# Altium footprint library PIC.PcbLib: 10 footprints
Each footprint in its own frame and in the unit in brackets; x right, y up, seen from the top. Pads: shape width x height; smd on the part's side, far side on the other; paste and mask are expansions set on the pad; w line width, h text height; cw(c..) or ccw(c..) is an arc to the next point about the centre after c.
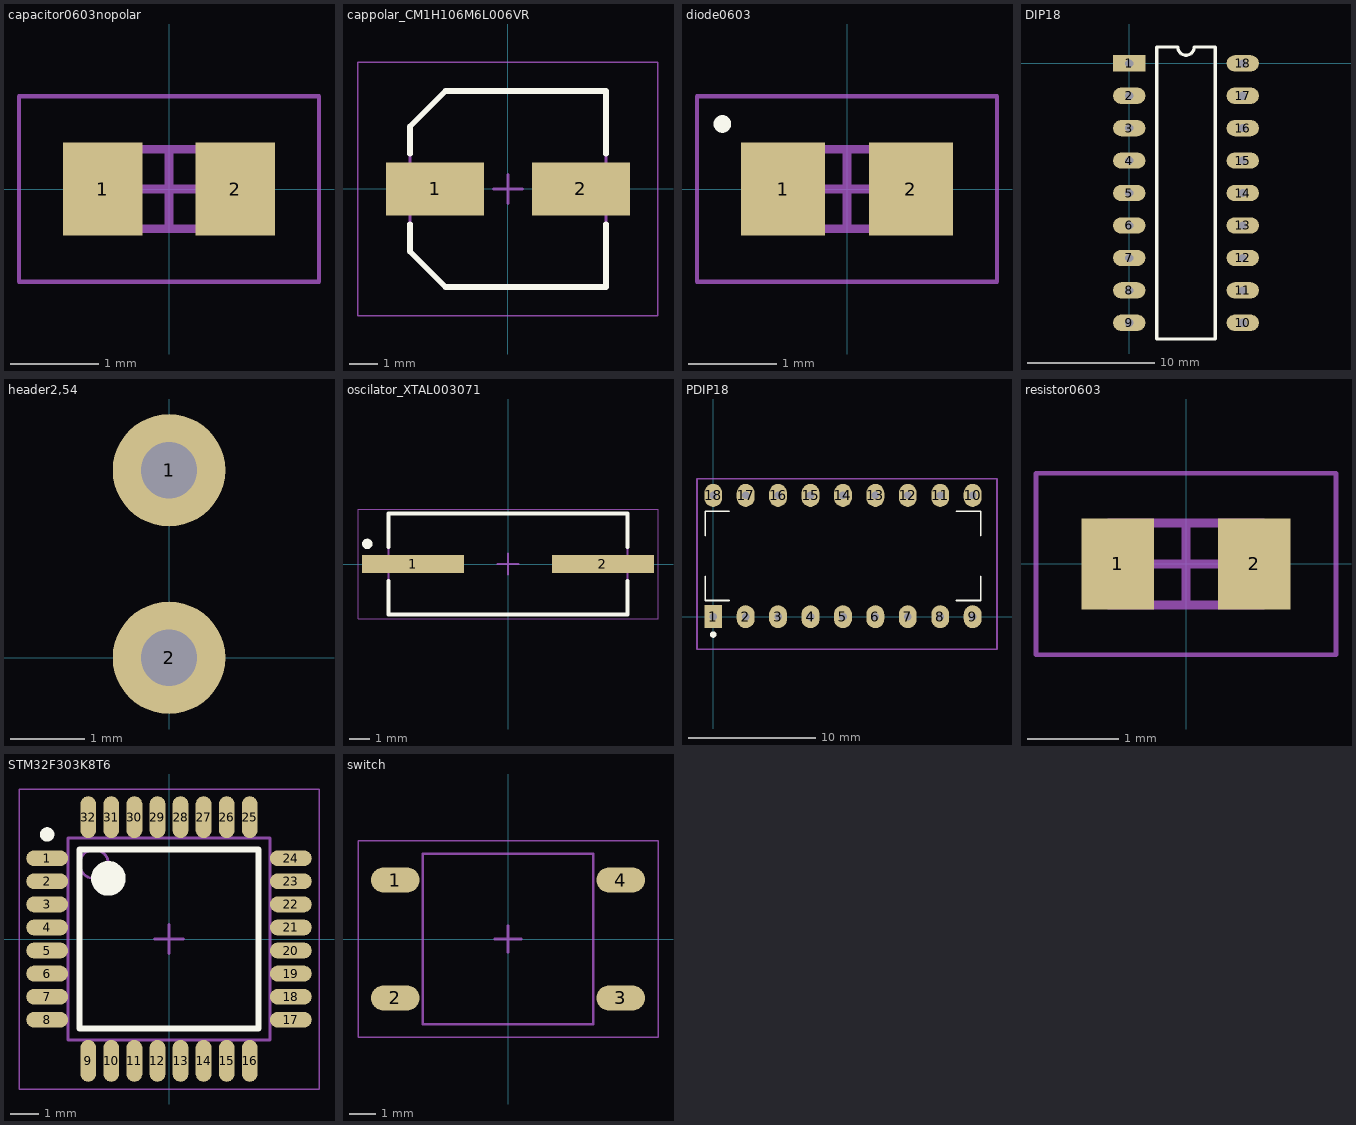
[diagram p0: the footprints below, top view; thin cyan lines are the x and y axes]

## capacitor0603nopolar [mm]
height 0.87
pads (2):
  rect 0.9x1.05 smd: 1(-0.75,0) 2(0.75,0)
Mechanical 13:
  lines w0.1: -0.85,-0.45 -0.85,0.45 0.85,0.45 0.85,-0.45 -0.85,-0.45
Mechanical 15:
  lines w0.05: -1.7,-1.05 -1.7,1.05 1.7,1.05 1.7,-1.05 -1.7,-1.05
  lines w0.1: -0.45,0 0.45,0 ; 0,-0.45 0,0.45
3D body: height 0.87, standoff 0, extent -0.5,-0.45 0.5,0.45
3D body: height 0.87, standoff 0, extent -0.85,-0.45 -0.5,0.45
3D body: height 0.87, standoff 0, extent 0.5,-0.45 0.85,0.45

## cappolar_CM1H106M6L006VR [mm]
height 6.3
pads (2):
  rect 3.4x1.85 smd: 1(-2.525,0) 2(2.525,0)
Top Overlay:
  lines w0.2: -3.4,-1.225 -3.4,-2.163 -2.162,-3.4 3.4,-3.4 3.4,-1.225 ; -3.4,1.225 -3.4,2.163 -2.162,3.4 3.4,3.4 3.4,1.225
Mechanical 13:
  lines w0.1: -3.4,-2.163 -2.162,-3.4 3.4,-3.4 3.4,3.4 -2.162,3.4 -3.4,2.163 -3.4,-2.163
Mechanical 15:
  lines w0.05: -5.2,-4.4 -5.2,4.4 5.2,4.4 5.2,-4.4 -5.2,-4.4
  lines w0.1: -0.5,0 0.5,0 ; 0,-0.5 0,0.5
3D body: height 2.1, standoff 0, extent -3.4,-3.4 3.4,3.4
3D body: height 6.3, standoff 0, extent -3.4,-3.4 3.4,3.4

## diode0603 [mm]
height 1
pads (2):
  rect 0.95x1.05 smd: 1(-0.725,0) 2(0.725,0)
Top Overlay:
  circle w0.1: c-1.412,0.737 r0.05
Mechanical 13:
  lines w0.1: -0.9,-0.45 0.9,-0.45 0.9,0.45 -0.9,0.45 -0.9,-0.45
Mechanical 15:
  lines w0.05: -1.7,-1.05 1.7,-1.05 1.7,1.05 -1.7,1.05 -1.7,-1.05
  lines w0.1: -0.45,0 0.45,0 ; 0,-0.45 0,0.45
3D body: height 1, standoff 0, extent 0.55,-0.45 0.9,0.45
3D body: height 1, standoff 0, extent -0.9,-0.45 -0.55,0.45
3D body: height 1, standoff 0, extent -0.55,-0.45 0.55,0.45

## DIP18 [mm]
pads (18):
  rect 2.54x1.27 hole 0.635: 1(0,0)
  oval 2.54x1.27 hole 0.635: 2(0,-2.54) 3(0,-5.08) 4(0,-7.62) 5(0,-10.16) 6(0,-12.7) 7(0,-15.24) 8(0,-17.78) 9(0,-20.32) 10(8.89,-20.32) 11(8.89,-17.78) 12(8.89,-15.24) 13(8.89,-12.7) 14(8.89,-10.16) 15(8.89,-7.62) 16(8.89,-5.08) 17(8.89,-2.54) 18(8.89,0)
Top Overlay:
  lines w0.254: 2.159,-21.59 6.731,-21.59 6.731,1.27 5.08,1.27 cw(c4.445,1.27) 3.81,1.27 2.159,1.27 2.159,-21.59
3D body: height 4.3, standoff 0, extent 2.159,-21.59 6.731,1.27

## header2,54 [mil]
pads (2):
  round 60 hole 30: 1(0,100) 2(0,0)

## oscilator_XTAL003071 [mm]
height 4.3
pads (2):
  rect 4.95x0.85 smd: 1(-4.6,0) 2(4.6,0)
Top Overlay:
  circle w0.25: c-6.825,0.975 r0.125
  lines w0.2: -5.8,-0.825 -5.8,-2.45 5.8,-2.45 5.8,-0.825 ; -5.8,0.825 -5.8,2.45 5.8,2.45 5.8,0.825
Mechanical 13:
  lines w0.1: -5.8,-2.45 5.8,-2.45 5.8,2.45 -5.8,2.45 -5.8,-2.45
Mechanical 15:
  lines w0.05: -7.275,-2.65 7.275,-2.65 7.275,2.65 -7.275,2.65 -7.275,-2.65
  lines w0.1: -0.5,0 0.5,0 ; 0,-0.5 0,0.5
3D body: height 4.3, standoff 0, extent -5.8,-2.45 5.8,2.45

## PDIP18 [mm]
height 4.32
pads (18):
  rect 1.4x1.8 hole 0.6: 1(0,0)
  oval 1.4x1.8 hole 0.6: 2(2.54,0) 3(5.08,0) 4(7.62,0) 5(10.16,0) 6(12.7,0) 7(15.24,0) 8(17.78,0) 9(20.32,0) 10(20.32,9.5) 11(17.78,9.5) 12(15.24,9.5) 13(12.7,9.5) 14(10.16,9.5) 15(7.62,9.5) 16(5.08,9.5) 17(2.54,9.5) 18(0,9.5)
Top Overlay:
  circle w0.254: c0,-1.397 r0.127
  lines w0.127: -0.635,3.175 -0.635,1.27 1.27,1.27 ; -0.635,6.35 -0.635,8.255 1.27,8.255 ; 19.05,1.27 20.955,1.27 20.955,3.175 ; 19.05,8.255 20.955,8.255 20.955,6.35
Mechanical 15:
  lines w0.127: -1.27,-2.54 -1.27,10.795 22.225,10.795 22.225,-2.54 -1.27,-2.54
3D body: height 4.3, standoff 0, extent -0.635,1.27 20.955,8.255

## resistor0603 [mm]
height 0.6
pads (2):
  rect 0.8x1 smd: 1(-0.75,0) 2(0.75,0)
Mechanical 13:
  lines w0.1: -0.85,-0.45 0.85,-0.45 0.85,0.45 -0.85,0.45 -0.85,-0.45
Mechanical 15:
  lines w0.05: -1.65,-1 1.65,-1 1.65,1 -1.65,1 -1.65,-1
  lines w0.1: -0.45,0 0.45,0 ; 0,-0.45 0,0.45
3D body: height 0.6, standoff 0, extent 0.55,-0.45 0.85,0.45
3D body: height 0.6, standoff 0, extent -0.85,-0.45 -0.55,0.45
3D body: height 0.6, standoff 0, extent -0.55,-0.45 0.55,0.45

## STM32F303K8T6 [mm] "TQFP, 32-Leads, Body 7,00x7,00mm, Pitch 0,80mm, IPC Medium Density"
height 1.6
pads (32):
  oval 1.45x0.55 smd: 1(-4.225,2.8) 2(-4.225,2) 3(-4.225,1.2) 4(-4.225,0.4) 5(-4.225,-0.4) 6(-4.225,-1.2) 7(-4.225,-2) 8(-4.225,-2.8) 17(4.225,-2.8) 18(4.225,-2) 19(4.225,-1.2) 20(4.225,-0.4) 21(4.225,0.4) 22(4.225,1.2) 23(4.225,2) 24(4.225,2.8)
  oval 0.55x1.45 smd: 9(-2.8,-4.225) 10(-2,-4.225) 11(-1.2,-4.225) 12(-0.4,-4.225) 13(0.4,-4.225) 14(1.2,-4.225) 15(2,-4.225) 16(2.8,-4.225) 25(2.8,4.225) 26(2,4.225) 27(1.2,4.225) 28(0.4,4.225) 29(-0.4,4.225) 30(-1.2,4.225) 31(-2,4.225) 32(-2.8,4.225)
Top Overlay:
  circle w0.6: c-2.1,2.1 r0.3
  circle w0.25: c-4.225,3.625 r0.125
  lines w0.2: -3.1,-3.1 3.1,-3.1 3.1,3.1 -3.1,3.1 -3.1,-3.1
Mechanical 13:
  circle w0.1: c-2.6,2.6 r0.5
  lines w0.1: -3.5,-3.5 3.5,-3.5 3.5,3.5 -3.5,3.5 -3.5,-3.5
Mechanical 15:
  lines w0.05: -5.2,-5.2 5.2,-5.2 5.2,5.2 -5.2,5.2 -5.2,-5.2
  lines w0.1: -0.5,0 0.5,0 ; 0,-0.5 0,0.5
3D body: height 1.6, standoff 0.05, extent -3.5,-3.5 3.5,3.5

## switch [mm]
height 4.6
pads (4):
  oval 1.85x0.95 smd: 1(-4.3,2.25) 2(-4.3,-2.25) 3(4.3,-2.25) 4(4.3,2.25)
Mechanical 13:
  lines w0.1: -3.25,-3.25 3.25,-3.25 3.25,3.25 -3.25,3.25 -3.25,-3.25
Mechanical 15:
  lines w0.05: -5.725,-3.75 5.725,-3.75 5.725,3.75 -5.725,3.75 -5.725,-3.75
  lines w0.1: -0.5,0 0.5,0 ; 0,-0.5 0,0.5
3D body: height 4.6, standoff 0.1, extent -3.25,-3.25 3.25,3.25